# EAGLE library part SPARKFUN-CONNECTORS_CONN_12 (library MotorBoardDev)
Multi connection point. Often used as Generic Header-pin footprint for 0.1 inch spaced/style header connections On any of the 0.1 inch spaced packages, you can populate with these: Break Away Headers - Straight <https://www.sparkfun.com/products/116> (PRT-00116) Break Away Male Headers - Right Angle <https://www.sparkfun.com/products/553> (PRT-00553) Female Headers <https://www.sparkfun.com/products/115> (PRT-00115) Break Away Headers - Machine Pin <https://www.sparkfun.com/products/117> (PRT-00117) Break Away Female Headers - Swiss Machine Pin <https://www.sparkfun.com/products/743> (PRT-00743) For SCREWTERMINALS and SPRING TERMINALS visit here: Screw Terimnals on SparkFun.com <https://www.sparkfun.com/search/results?term=Screw+Terminals> (5mm/3.5mm/2.54mm spacing) This device is also useful as a general connection point to wire up your design to another part of your project. Our various solder wires solder well into these plated through hole pads. Hook-Up Wire - Assortment (Stranded, 22 AWG) <https://www.sparkfun.com/products/11375> (PRT-11375) Hook-Up Wire - Assortment (Solid Core, 22 AWG) <https://www.sparkfun.com/products/11367> (PRT-11367) View the entire wire category on our website here <https://www.sparkfun.com/categories/141> Special notes: Molex polarized connector foot print use with SKU : PRT-08231 with associated crimp pins and housings. 1MM SMD Version SKU: PRT-10208 NOTES ON THE VARIANTS LOCK and LOCK_LONGPADS... This footprint was designed to help hold the alignment of a through-hole component (i.e. 6-pin header) while soldering it into place. You may notice that each hole has been shifted either up or down by 0.005 of an inch from it's more standard position (which is a perfectly straight line). This slight alteration caused the pins (the squares in the middle) to touch the edges of the holes. Because they are alternating, it causes a "brace" to hold the component in place. 0.005 has proven to be the perfect amount of "off-center" position when using our standard breakaway headers. Although looks a little odd when you look at the bare footprint, once you have a header in there, the alteration is very hard to notice. Also,if you push a header all the way into place, it is covered up entirely on the bottom side.
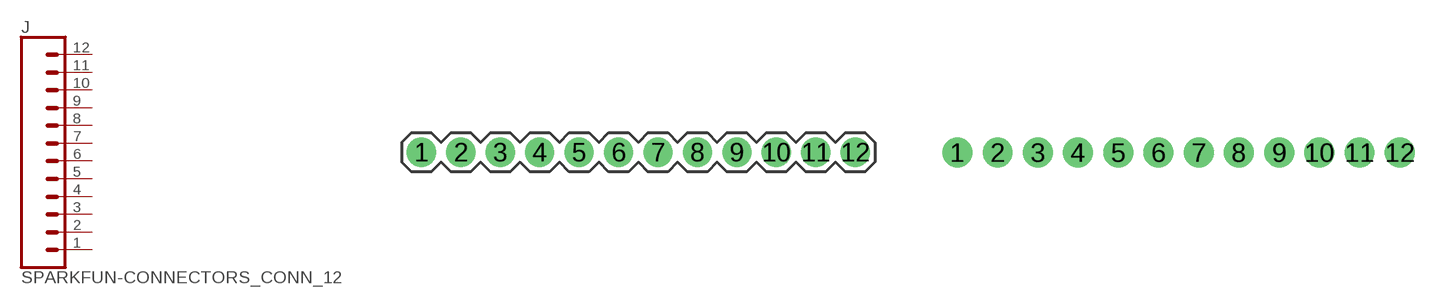
[diagram p6: symbol with the pads of SPARKFUN-CONNECTORS_1X12; footprints SPARKFUN-CONNECTORS_1X12, SPARKFUN-CONNECTORS_1X12_NO_SILK_KIT]

Designator prefix J

## SPARKFUN-CONNECTORS_CONN_12  [SPARKFUN-CONNECTORS_1X12]
1  1  pas
2  2  pas
3  3  pas
4  4  pas
5  5  pas
6  6  pas
7  7  pas
8  8  pas
9  9  pas
10  10  pas
11  11  pas
12  12  pas

## SPARKFUN-CONNECTORS_CONN_121X12_NO_SILK_KIT  [SPARKFUN-CONNECTORS_1X12_NO_SILK_KIT]
Pads as for SPARKFUN-CONNECTORS_1X12

## SPARKFUN-CONNECTORS_CONN_12LOCK  [SPARKFUN-CONNECTORS_1X12_LOCK]
Pads as for SPARKFUN-CONNECTORS_1X12

## SPARKFUN-CONNECTORS_CONN_12LOCK_LONGPADS  [SPARKFUN-CONNECTORS_1X12_LOCK_LONGPADS]
Pads as for SPARKFUN-CONNECTORS_1X12

## SPARKFUN-CONNECTORS_CONN_12LOCK_NO_SILK  [SPARKFUN-CONNECTORS_1X12_LOCK_NO_SILK]
Pads as for SPARKFUN-CONNECTORS_1X12

## SPARKFUN-CONNECTORS_CONN_12LONGPADS  [SPARKFUN-CONNECTORS_1X12_LONGPADS]
Pads as for SPARKFUN-CONNECTORS_1X12

## SPARKFUN-CONNECTORS_CONN_12MACHINE-PIN_LOCK (PROD_ID: CONN-09704)  [SPARKFUN-CONNECTORS_1X12_MACHINE-PIN-HEADER_LOCK.004]
Pads as for SPARKFUN-CONNECTORS_1X12

## SPARKFUN-CONNECTORS_CONN_12NO_SILK  [SPARKFUN-CONNECTORS_1X12_NO_SILK]
Pads as for SPARKFUN-CONNECTORS_1X12

## SPARKFUN-CONNECTORS_CONN_12POGOPIN_HOLES_ONLY  [SPARKFUN-CONNECTORS_1X12_HOLES_ONLY]
Pads as for SPARKFUN-CONNECTORS_1X12

## Footprint SPARKFUN-CONNECTORS_1X12 (pad centres in mm)
Plated Through Hole -12 Pin Specifications: Pin count:12 Pin pitch:0.1" Example device(s): CONN_12
drill 1.016 pad 1.88: 1 0,0; 2 2.54,0; 3 5.08,0; 4 7.62,0; 5 10.16,0; 6 12.7,0; 7 15.24,0; 8 17.78,0; 9 20.32,0; 10 22.86,0; 11 25.4,0; 12 27.94,0

## Footprint SPARKFUN-CONNECTORS_1X12_NO_SILK_KIT (pad centres in mm)
Plated Through Hole -12 Pin No Silk Kit Mask on one side only for soldering kits. Specifications: Pin count:12 Pin pitch:0.1" Example device(s): CONN_12
drill 1.016 pad 1.88: 1 0,0; 2 2.54,0; 3 5.08,0; 4 7.62,0; 5 10.16,0; 6 12.7,0; 7 15.24,0; 8 17.78,0; 9 20.32,0; 10 22.86,0; 11 25.4,0; 12 27.94,0

## Footprint SPARKFUN-CONNECTORS_1X12_LOCK (pad centres in mm)
Plated Through Hole -12 Pin Locking Footprint Holes are offset 0.005", to hold pins in place during soldering. Specifications: Pin count:12 Pin pitch:0.1" Example device(s): CONN_12
drill 1.016 pad 1.88: 1 0,0.127; 2 2.54,-0.127; 3 5.08,0.127; 4 7.62,-0.127; 5 10.16,0.127; 6 12.7,-0.127; 7 15.24,0.127; 8 17.78,-0.127; 9 20.32,0.127; 10 22.86,-0.127; 11 25.4,0.127; 12 27.94,-0.127

## Footprint SPARKFUN-CONNECTORS_1X12_LOCK_LONGPADS (pad centres in mm)
Plated Through Hole -12 Pin Locking Footprint with Long Pads Holes are offset 0.005", to hold pins in place during soldering. Specifications: Pin count:12 Pin pitch:0.1" Example device(s): CONN_12
drill 1.016 long: 1 0,0.127; 2 2.54,-0.127; 3 5.08,0.127; 4 7.62,-0.127; 5 10.16,0.127; 6 12.7,-0.127; 7 15.24,0.127; 8 17.78,-0.127; 9 20.32,0.127; 10 22.86,-0.127; 11 25.4,0.127; 12 27.94,-0.127

## Footprint SPARKFUN-CONNECTORS_1X12_LOCK_NO_SILK (pad centres in mm)
Plated Through Hole -12 Pin Locking Footprint No Silk Holes are offset 0.005", to hold pins in place during soldering. Specifications: Pin count:12 Pin pitch:0.1" Example device(s): CONN_12
drill 1.016 pad 1.88: 1 0,0.127; 2 2.54,-0.127; 3 5.08,0.127; 4 7.62,-0.127; 5 10.16,0.127; 6 12.7,-0.127; 7 15.24,0.127; 8 17.78,-0.127; 9 20.32,0.127; 10 22.86,-0.127; 11 25.4,0.127; 12 27.94,-0.127

## Footprint SPARKFUN-CONNECTORS_1X12_LONGPADS (pad centres in mm)
Plated Through Hole -12 Pin Long Pads Holes are offset 0.005", to hold pins in place during soldering. Specifications: Pin count:12 Pin pitch:0.1" Example device(s): CONN_12
drill 1.118 pad 1.88 long: 1 0,0; 2 2.54,0; 3 5.08,0; 4 7.62,0; 5 10.16,0; 6 12.7,0; 7 15.24,0; 8 17.78,0; 9 20.32,0; 10 22.86,0; 11 25.4,0; 12 27.94,0

## Footprint SPARKFUN-CONNECTORS_1X12_MACHINE-PIN-HEADER_LOCK.004 (pad centres in mm)
Plated Through Hole -12 Pin Machine Pin Headers Holes are offset 0.005", to hold pins in place during soldering. Specifications: Pin count:12 Pin pitch:0.1" Example device(s): CONN_12
drill 0.889 pad 1.88: 1 0,0.102; 2 2.54,-0.102; 3 5.08,0.102; 4 7.62,-0.102; 5 10.16,0.102; 6 12.7,-0.102; 7 15.24,0.102; 8 17.78,-0.102; 9 20.32,0.102; 10 22.86,-0.102; 11 25.4,0.102; 12 27.94,-0.102

## Footprint SPARKFUN-CONNECTORS_1X12_NO_SILK (pad centres in mm)
Plated Through Hole -12 Pin No Silk Specifications: Pin count:12 Pin pitch:0.1" Example device(s): CONN_12
drill 1.016 pad 1.88: 1 0,0; 2 2.54,0; 3 5.08,0; 4 7.62,0; 5 10.16,0; 6 12.7,0; 7 15.24,0; 8 17.78,0; 9 20.32,0; 10 22.86,0; 11 25.4,0; 12 27.94,0

## Footprint SPARKFUN-CONNECTORS_1X12_HOLES_ONLY (pad centres in mm)
Holes -12 Pin No plating, no silk Specifications: Pin count:12 Pin pitch:0.1" Example device(s): CONN_12
drill 0.889 pad 0.813: 1 0,0; 2 2.54,0; 3 5.08,0; 4 7.62,0; 5 10.16,0; 6 12.7,0; 7 15.24,0; 8 17.78,0; 9 20.32,0; 10 22.86,0; 11 25.4,0; 12 27.94,0
hole 1.473 at 0,0
hole 1.473 at 2.54,0
hole 1.473 at 5.08,0
hole 1.473 at 7.62,0
hole 1.473 at 10.16,0
hole 1.473 at 12.7,0
hole 1.473 at 15.24,0
hole 1.473 at 17.78,0
hole 1.473 at 20.32,0
hole 1.473 at 22.86,0
hole 1.473 at 25.4,0
hole 1.473 at 27.94,0